# EAGLE library part 12X12 (library sp5ww)
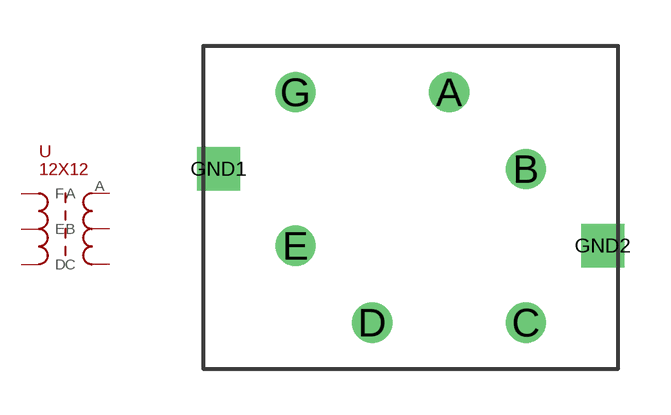
[diagram p1: symbol with the pads of 12X12; footprint 12X12]

Designator prefix -

## 12X12  [12X12]
A  A
B  B
C  C
D  D
E  E
G  F
GND1  GND  pwr
GND2  GND  pwr

## Footprint 12X12 (pad centres in mm)
drill 0.8: A 7.5,2.5; B 10,0; C 10,-5; D 5,-5; E 2.5,-2.5; G 2.5,2.5
drill 0.9 square: GND1 0,0; GND2 12.5,-2.5